# Altium footprint library 9-Comp+Tests.PcbLib: 125 footprints (part 6 of 8)
Each footprint in its own frame and in the unit in brackets; x right, y up, seen from the top. Pads: shape width x height; smd on the part's side, far side on the other; paste and mask are expansions set on the pad; w line width, h text height; cw(c..) or ccw(c..) is an arc to the next point about the centre after c.
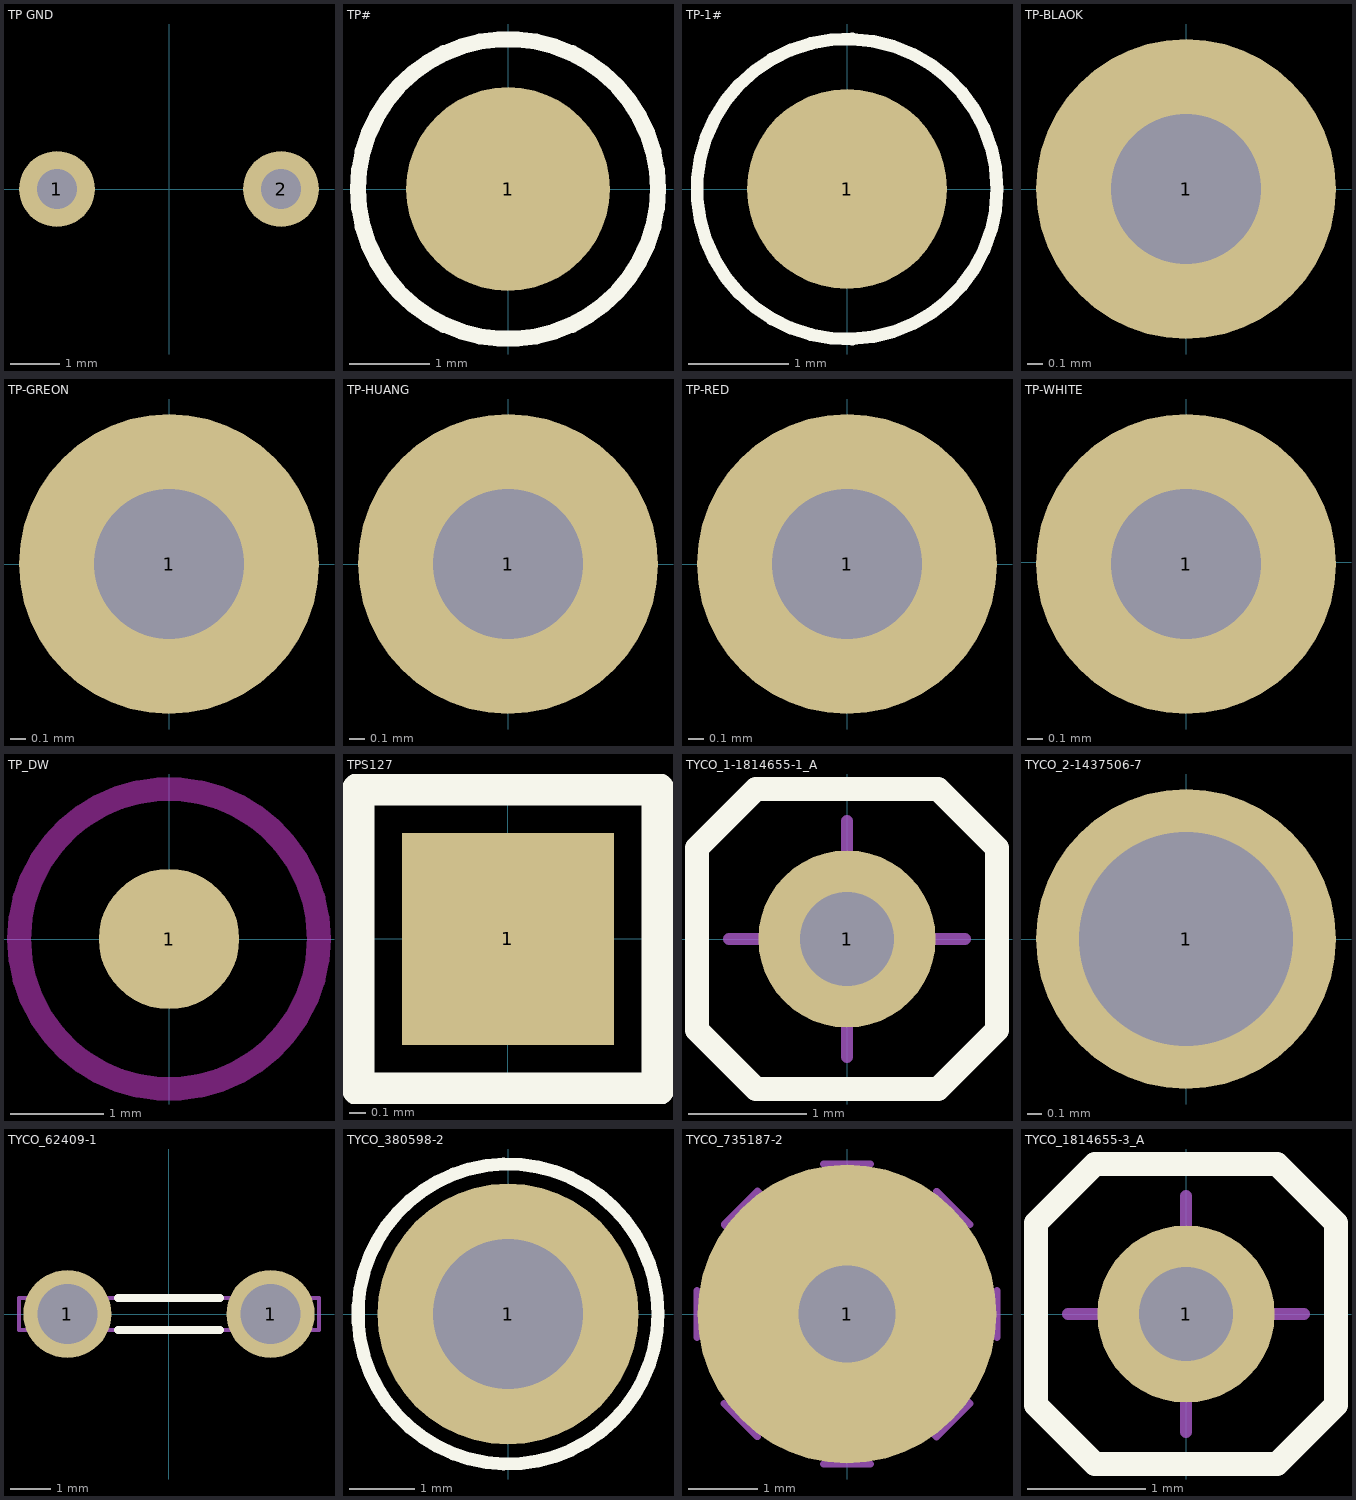
[diagram p5: the footprints below, top view; thin cyan lines are the x and y axes]

## TP GND [mm]
height 11.7
pads (2):
  round 1.524 hole 0.8: 1(-2.25,0)
  round 1.524 hole 0.8 mask+0.07: 2(2.25,0)
3D body "v160-080.stp": height 0.02, standoff -1.65, extent 1.45,-0.8 3.05,0.8
3D body "v160-080.stp": height 0.02, standoff -1.65, extent -3.05,-0.8 -1.45,0.8
3D body "tp_gnd.stp": height 11, standoff 0, extent -3.825,-0.35 3.825,0.35

## TP# [mm]
height 11.7
pads (1):
  round 2.54 smd: 1(0,0)
Top Overlay:
  circle w0.2: c0,0 r1.868
Top Solder:
  circle w2: c0,0 r0.66
3D body "2_54tp.stp": height 0.01, standoff 0, extent -1.27,-1.269 1.27,1.269

## TP-1# [mm] "TP_SMVT_112X150"
height 11.7
pads (1):
  round 2 smd: 1(0,0)
Top Overlay:
  circle w0.127: c0,0 r1.5
Top Solder:
  circle w2: c0,0 r0.3
3D body "2_54tp.stp": height 0.01, standoff 0, extent -1.27,-1.27 1.27,1.27

## TP-BLAOK [mm]
height 11.7
pads (1):
  round 2 hole 1: 1(0,0)
3D body "tp-blaok.stp": height 4.9, standoff -3, extent -1.25,-1.25 1.25,1.25

## TP-GREON [mm]
height 11.7
pads (1):
  round 2 hole 1: 1(0,0)
3D body "tp-Groen.stp": height 4.9, standoff -3, extent -1.25,-1.25 1.25,1.25

## TP-HUANG [mm]
height 11.7
pads (1):
  round 2 hole 1: 1(0,0)
3D body "tp-huang.stp": height 4.9, standoff -3, extent -1.25,-1.25 1.25,1.25

## TP-RED [mm]
height 11.7
pads (1):
  round 2 hole 1: 1(0,0)
3D body "tp-Red.stp": height 4.9, standoff -3, extent -1.25,-1.25 1.25,1.25

## TP-WHITE [mm]
height 11.7
pads (1):
  round 2 hole 1: 1(0,-0.013)
3D body "tp-white.stp": height 4.9, standoff -3, extent -1.25,-1.263 1.25,1.237

## TP_DW [mm]
height 11.7
pads (1):
  round 1.5 smd mask+1: 1(0,0)
Keep-Out Layer:
  circle w0.254: c0,0 r1.603
3D body "1_016-1_016-3_tp.stp": height 0.02, standoff 0, extent -1.5,-1.5 1.5,1.5

## TPS127 [mm] "1.27 x  1.27mm SMD Test Point Area"
height 11.7
pads (1):
  rect 1.27x1.27 smd paste-1.27: 1(0,0)
Top Overlay:
  lines w0.2: -0.9,-0.9 0.9,-0.9 0.9,0.9 -0.9,0.9 -0.9,-0.9
Mechanical 14:
  lines w0.1: -0.9,-0.9 0.9,-0.9 0.9,0.9 -0.9,0.9 -0.9,-0.9
3D body "p127-127.stp": height 0.02, standoff 0, extent -0.635,-0.635 0.635,0.635

## TYCO_1-1814655-1_A [mm] "1 of 16 Positions, Pitch 2.54mm, Width 2.54mm, Heigh 4.4mm, SIP Straight Socket"
height 4.4
pads (1):
  round 1.5 hole 0.8: 1(0,0)
Top Overlay:
  lines w0.2: -1.27,-0.77 -1.27,0.77 -0.77,1.27 0.77,1.27 1.27,0.77 1.27,-0.77 0.77,-1.27 -0.77,-1.27 -1.27,-0.77
Mechanical 8:
  lines w0.1: -1,0 0,0 ; 0,-1 0,0 ; 0,1 0,0 ; 1,0 0,0
Mechanical 14:
  lines w0.1: -1.27,-0.77 -1.27,0.77 -0.77,1.27 0.77,1.27 1.27,0.77 1.27,-0.77 0.77,-1.27 -0.77,-1.27 -1.27,-0.77
3D body "TYCO_1-1814655-1_a.stp": height 4.4, standoff -2.9, extent -1.27,-1.27 1.27,1.27

## TYCO_2-1437506-7 [mm] "HOLTITE Socket (Mating Pin Dia. Range 0.64 to 0.89mm)"
height 3.56
pads (1):
  round 2.1 hole 1.5: 1(0,0)
Mechanical 14:
  circle w0.1: c0,0.006 r0.368
  circle w0.1: c0,0 r0.737
3D body "TYCO_7-1437514-0.stp": height 0, standoff -3.45, extent -0.736,-0.737 0.737,0.737

## TYCO_62409-1 [mm] "6.3 x 0.8mm FASTON Tab for Printed Circuit Board"
height 12.62
pads (2):
  round 2.2 hole 1.5: 1(-2.54,0) 1(2.54,0)
Top Overlay:
  lines w0.2: -1.27,-0.4 1.27,-0.4 ; -1.27,0.4 1.27,0.4
Mechanical 8:
  lines w0.1: -3.54,0 -2.54,0 -2.54,-1 ; 1.54,0 2.54,0 2.54,-1
Mechanical 14:
  lines w0.1: -3.746,-0.4 3.747,-0.4 3.747,0.4 -3.746,0.4 -3.746,-0.4
3D body "TYCO_62409-1.stp": height 12.62, standoff -3.17, extent -3.746,-0.4 3.747,0.4
3D body "v240-170.stp": height 0.02, standoff -1.65, extent -3.74,-1.2 -1.34,1.2
3D body "v240-170.stp": height 0.02, standoff -1.65, extent 1.34,-1.2 3.74,1.2

## TYCO_380598-2 [mm] "Reuseable Component Receptacle (Mating Pin Dia. Range 0.46 to1.02mm) With Closed Bottom Sleeve"
height 0.89
pads (1):
  round 4 hole 2.3: 1(0,0)
Top Overlay:
  circle w0.2: c0,0 r2.3
Mechanical 8:
  lines w0.1: -0.5,0 0,0 ; 0,-0.5 0,0 ; 0,0.5 0,0 ; 0.5,0 0,0
Mechanical 14:
  circle w0.1: c0,0 r0.667
  circle w0.1: c0,0 r1.118
  circle w0.1: c0,0.006 r1.587
3D body "TYCO_380598-2.stp": height 0.89, standoff -5.53, extent -1.587,-1.581 1.588,1.594

## TYCO_735187-2 [mm] "2.8mm FASTON Tab For PC Board (1.4mm hole)"
height 8.6
pads (1):
  round 4.3 hole 1.4 mask-0.7: 1(0,0)
Mechanical 14:
  lines w0.1: -2.159,-0.34 -2.159,0.34 ; -1.767,-1.286 -1.286,-1.767 ; -0.34,-2.159 0.34,-2.159 ; -0.34,2.159 0.34,2.159 ; 1.286,1.767 1.767,1.286 ; 2.159,-0.34 2.159,0.34 ; -1.767,1.286 -1.286,1.767 1.767,-1.286 1.286,-1.767 -1.767,1.286
3D body "TYCO_735187-2.stp": height 8.64, standoff -3.81, extent -1.767,-1.767 1.767,1.767

## TYCO_1814655-3_A [mm] "1 of 4 Positions, Pitch 2.54mm, Width 2.54mm, Heigh 4.4mm, SIP Straight Socket"
height 4.4
pads (1):
  round 1.5 hole 0.8: 1(0,0)
Top Overlay:
  lines w0.2: -1.27,-0.77 -0.77,-1.27 0.77,-1.27 1.27,-0.77 1.27,0.77 0.77,1.27 -0.77,1.27 -1.27,0.77 -1.27,-0.77
Mechanical 8:
  lines w0.1: -1,0 0,0 ; 0,-1 0,0 ; 0,1 0,0 ; 1,0 0,0
Mechanical 14:
  lines w0.1: -1.27,-0.77 -0.77,-1.27 0.77,-1.27 1.27,-0.77 1.27,0.77 0.77,1.27 -0.77,1.27 -1.27,0.77 -1.27,-0.77
3D body "TYCO_1814655-3_a.stp": height 4.4, standoff -2.9, extent -1.27,-1.27 1.27,1.27